# Altium footprint library FootprintLib.PcbLib: 194 footprints (part 12 of 13)
Each footprint in its own frame and in the unit in brackets; x right, y up, seen from the top. Pads: shape width x height; smd on the part's side, far side on the other; paste and mask are expansions set on the pad; w line width, h text height; cw(c..) or ccw(c..) is an arc to the next point about the centre after c.
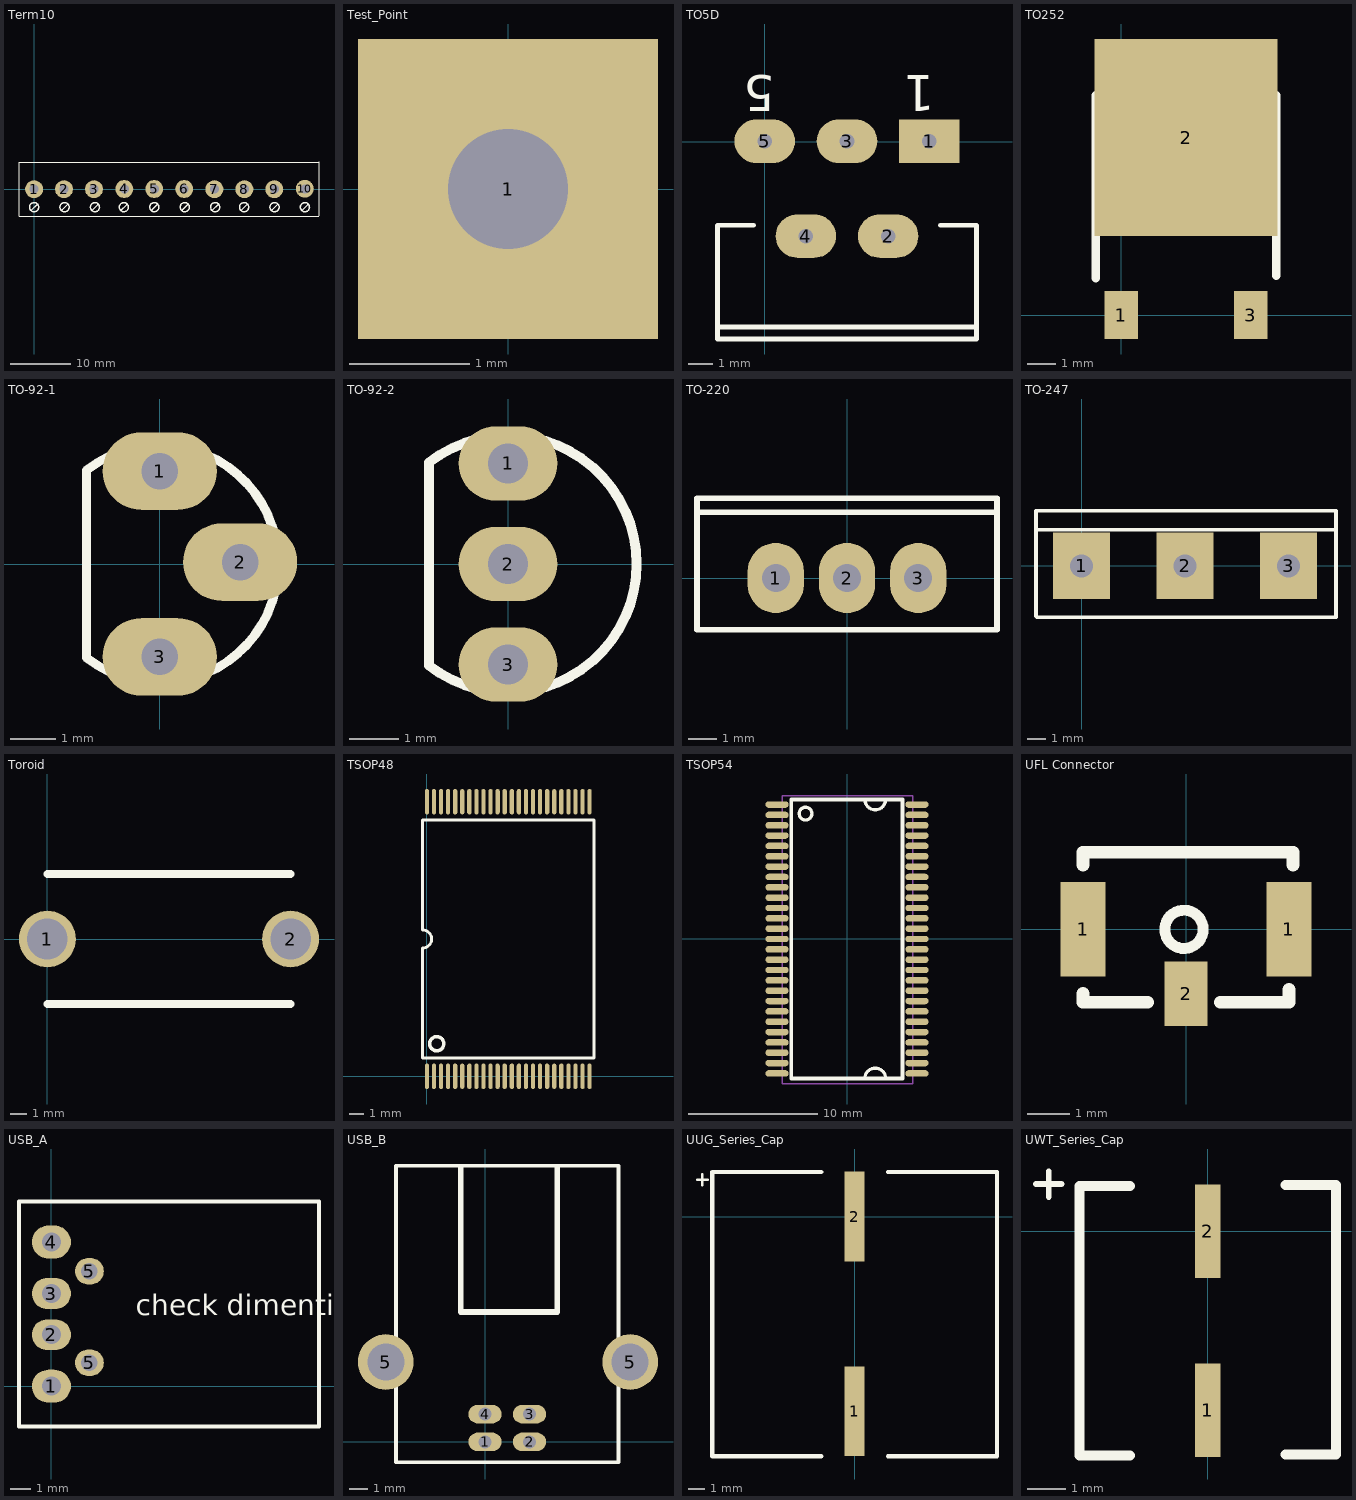
[diagram p11: the footprints below, top view; thin cyan lines are the x and y axes]

## Term10 [mm]
pads (10):
  round 3 hole 1.5: 1(0,0) 2(5,0) 3(10,0) 4(15.06,0.04) 5(20.06,0.04) 6(25.06,0.04) 7(30.1,0) 8(35.1,0) 9(40.1,0) 10(45.19,0.07)
Top Overlay:
  circle w0.254: c0,-3 r0.764
  circle w0.254: c5.08,-3 r0.764
  circle w0.254: c10.16,-3 r0.764
  circle w0.254: c14.986,-3 r0.764
  circle w0.254: c20.066,-3 r0.764
  circle w0.254: c25.146,-3 r0.764
  circle w0.254: c30.226,-3 r0.764
  circle w0.254: c35.052,-3 r0.764
  circle w0.254: c40.132,-3 r0.764
  circle w0.254: c45.212,-3 r0.764
  lines w0.2: -2.52,-4.53 47.53,-4.5 ; -2.5,-4.5 -2.5,0 -2.5,4.5 7.5,4.5 47.55,4.5 ; 47.56,-4.41 47.56,0.09 47.56,4.59
  lines w0.254: -0.508,-3.556 0.508,-2.54 ; 4.572,-3.556 5.588,-2.54 ; 9.652,-3.556 10.668,-2.54 ; 14.478,-3.556 15.494,-2.54 ; 19.558,-3.556 20.574,-2.54 ; 24.638,-3.556 25.654,-2.54 ; 29.718,-3.556 30.734,-2.54 ; 34.544,-3.556 35.56,-2.54 ; 39.624,-3.556 40.64,-2.54 ; 44.704,-3.556 45.72,-2.54

## Test_Point [mm]
pads (1):
  rect 2.5x2.5 hole 1: 1(0,0)

## TO5D [mm]
pads (5):
  rect 2.5x1.8 hole 0.6: 1(6.805,0.012)
  oval 2.5x1.8 hole 0.6: 2(5.105,-3.908) 3(3.405,0.012) 4(1.705,-3.908) 5(0.005,0.012)
Top Overlay:
  lines w0.2: -1.945,-7.658 8.755,-7.658 ; -0.449,-3.458 -1.945,-3.458 -1.945,-8.158 8.755,-8.158 8.755,-3.458 7.259,-3.458
  text "1" at 7.025,2.737 h1.5
  text "5" at 0.425,2.737 h1.5

## TO252 [mm]
pads (3):
  rect 1.2x1.7 smd: 1(0,0) 3(4.6,0)
  rect 6.5x7 smd: 2(2.3,6.3)
Top Overlay:
  lines w0.3: -0.9,1.3 -0.9,7.8 ; -0.4,7.8 5.5,7.8 5.5,1.4 ; -0.9,7.8 0.3,7.8 0.3,8.5 0.6,8.8 4.2,8.8 4.5,8.5 4.5,7.9 ; -0.9,7.8 -0.9,7.8 ; 4.5,7.9 4.5,7.9

## TO-92-1 [mm]
pads (3):
  oval 2.5x1.7 hole 0.8: 1(0,2.032) 2(1.76,0.04) 3(0,-2.032)
Top Overlay:
  lines w0.2: -1.601,-2.049 ccw(c0,0) -1.601,2.049 ; -1.6,-1.99 -1.6,1.99

## TO-92-2 [mm]
pads (3):
  oval 2x1.5 hole 0.8: 1(0,2.032) 2(0,0) 3(0,-2.032)
Top Overlay:
  lines w0.2: -1.601,-2.049 ccw(c0,0) -1.601,2.049 ; -1.6,-1.99 -1.6,1.99

## TO-220 [mm]
pads (3):
  oval 2x2.5 hole 1: 1(-2.54,0) 2(0,0) 3(2.54,0)
Top Overlay:
  lines w0.2: -5.35,2.35 5.35,2.35 ; -5.35,-1.85 5.35,-1.85 5.35,2.85 -5.35,2.85 -5.35,-1.85

## TO-247 [mm]
pads (3):
  rect 3x3.5 hole 1.2: 1(0,0) 2(5.45,0) 3(10.9,0)
Top Overlay:
  lines w0.2: -2.4,-2.65 -2.4,2.9 13.4,2.9 13.4,-2.65 ; -2.35,-2.7 13.4,-2.7 ; -2.35,1.9 13.4,1.9

## Toroid [mm]
pads (2):
  round 3.5 hole 2.5: 1(0,0) 2(15,0)
Top Overlay:
  lines w0.5: 0,-4 15,-4 ; 0,4 15,4

## TSOP48 [mm]
height 1.2
pads (48):
  oval 0.3x1.8 smd: 1(0,0) 2(0.5,0) 3(1,0) 4(1.5,0) 5(2,0) 6(2.5,0) 7(3,0) 8(3.5,0) 9(4,0) 10(4.5,0) 11(5,0) 12(5.5,0) 13(6,0) 14(6.5,0) 15(7,0) 16(7.5,0) 17(8,0) 18(8.5,0) 19(9,0) 20(9.5,0) 21(10,0) 22(10.5,0) 23(11,0) 24(11.5,0) 25(11.5,19.4) 26(11,19.4) 27(10.5,19.4) 28(10,19.4) 29(9.5,19.4) 30(9,19.4) 31(8.5,19.4) 32(8,19.4) 33(7.5,19.4) 34(7,19.4) 35(6.5,19.4) 36(6,19.4) 37(5.5,19.4) 38(5,19.4) 39(4.5,19.4) 40(4,19.4) 41(3.5,19.4) 42(3,19.4) 43(2.5,19.4) 44(2,19.4) 45(1.5,19.4) 46(1,19.4) 47(0.5,19.4) 48(0,19.4)
Top Overlay:
  circle w0.25: c0.7,2.3 r0.5
  lines w0.2: -0.3,1.3 -0.3,9.065 ccw(c-0.3,9.7) -0.3,10.335 -0.3,18.1 11.8,18.1 11.8,1.3 -0.3,1.3

## TSOP54 [mm]
height 1.2
pads (54):
  oval 1.8x0.5 smd: 1(-5.415,10.4) 2(-5.415,9.6) 3(-5.415,8.8) 4(-5.415,8) 5(-5.415,7.2) 6(-5.415,6.4) 7(-5.415,5.6) 8(-5.415,4.8) 9(-5.415,4) 10(-5.415,3.2) 11(-5.415,2.4) 12(-5.415,1.6) 13(-5.415,0.8) 14(-5.415,0) 15(-5.415,-0.8) 16(-5.415,-1.6) 17(-5.415,-2.4) 18(-5.415,-3.2) 19(-5.415,-4) 20(-5.415,-4.8) 21(-5.415,-5.6) 22(-5.415,-6.4) 23(-5.415,-7.2) 24(-5.415,-8) 25(-5.415,-8.8) 26(-5.415,-9.6) 27(-5.415,-10.4) 28(5.415,-10.4) 29(5.415,-9.6) 30(5.415,-8.8) 31(5.415,-8) 32(5.415,-7.2) 33(5.415,-6.4) 34(5.415,-5.6) 35(5.415,-4.8) 36(5.415,-4) 37(5.415,-3.2) 38(5.415,-2.4) 39(5.415,-1.6) 40(5.415,-0.8) 41(5.415,0) 42(5.415,0.8) 43(5.415,1.6) 44(5.415,2.4) 45(5.415,3.2) 46(5.415,4) 47(5.415,4.8) 48(5.415,5.6) 49(5.415,6.4) 50(5.415,7.2) 51(5.415,8) 52(5.415,8.8) 53(5.415,9.6) 54(5.415,10.4)
Top Overlay:
  lines w0.254: -3.703,9.7 cw(c-3.209,9.7) -3.7,9.645 ; 1.379,-10.8 cw(c2.185,-10.8) 2.991,-10.8 ; 1.384,10.711 ccw(c2.185,10.8) 2.986,10.711
  lines w0.3: -4.315,-10.8 -4.315,10.8 4.285,10.8 4.285,-10.8 -4.315,-10.8
Mechanical 1:
  lines w0.1: -5.015,-11.2 -5.015,11.1 ; -4.995,-11.2 5.085,-11.2 5.085,11.1 -4.995,11.1

## UFL Connector [mm]
height 2
pads (3):
  rect 1.05x2.2 smd: 1(-2.4,0) 1(2.4,0)
  rect 1x1.5 smd: 2(0,-1.5)
Top Overlay:
  circle w0.254: c-0.047,0 r0.447
  lines w0.3: -2.4,-1.5 -2.4,-1.7 -0.9,-1.7 ; -2.4,1.5 -2.4,1.8 2.5,1.8 2.5,1.5 ; 0.8,-1.7 2.4,-1.7 2.4,-1.4

## USB_A [mm]
height 8
pads (6):
  oval 1.9x1.6 hole 0.92: 1(0,0) 4(0,7)
  oval 1.9x1.5 hole 0.92: 2(0,2.5) 3(0,4.5)
  oval 1.4x1.3 hole 0.8 paste+0: 5(1.85,1.14)
  oval 1.4x1.3 hole 0.8: 5(1.85,5.58)
Top Overlay:
  lines w0.2: -1.57,-1.95 -1.57,8.95 ; -1.57,8.96 12.996,8.96 12.996,-1.95 -1.56,-1.95
  text "check dimentions" at 4.096,3.456 h1

## USB_B [mm]
height 10
pads (6):
  oval 1.8x1 hole 0.7: 1(0,0) 2(2.4,0) 3(2.4,1.5) 4(0,1.5)
  round 3 hole 2: 5(-5.35,4.31) 5(7.83,4.31)
Top Overlay:
  lines w0.2: -4.8,-1.1 -4.8,14.9 7.2,14.9 7.2,-1.1 -4.8,-1.09
  lines w0.3: -1.301,14.808 -1.301,7.008 3.899,7.008 3.899,14.808

## UUG_Series_Cap [mm]
pads (2):
  rect 1.2x5.4 smd: 1(0,-11.7) 2(0,0.004)
Top Overlay:
  lines w0.15: -9.474,2.21 -8.814,2.21 ; -9.144,1.88 -9.144,2.54
  lines w0.254: -2,-14.402 -8.56,-14.402 -8.56,2.692 -2,2.692 ; 2,-14.402 8.56,-14.402 8.56,2.692 2,2.692

## UWT_Series_Cap [mm]
pads (2):
  rect 0.65x2.4 smd: 1(0,-4.6) 2(0,0.004)
Top Overlay:
  lines w0.15: -4.42,1.219 -3.759,1.219 ; -4.089,0.889 -4.089,1.549
  lines w0.254: -2,-5.766 -3.302,-5.766 -3.302,1.168 -2,1.168 ; 2,-5.74 3.302,-5.74 3.302,1.194 2,1.194